# EAGLE library part SW-SPDT (library CougsInSpace-RF)
RF Switch - Single Pole Dual Throw
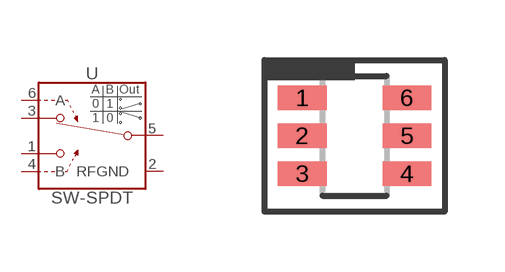
[diagram p4: symbol with the pads of SOT23-6; footprint SOT23-6]

Designator prefix U

## SW-SPDT-SOT23-6 (SKU: 65-0009; VALUE: HMC545A)  [SOT23-6]
1  RF2
2  RFGND  pwr
3  RF1
4  B  in
5  RFC
6  A  in

## Footprint SOT23-6 (pad centres in mm)
SOT23 - 6 Pin
smd 1.22 x 0.62: 1 -1.31,0.95; 2 -1.31,0; 3 -1.31,-0.95; 4 1.31,-0.95; 5 1.31,0; 6 1.31,0.95